# EAGLE library part SCA21X0 (library murata-sensor)
DUAL AXIS ACCELEROMETER
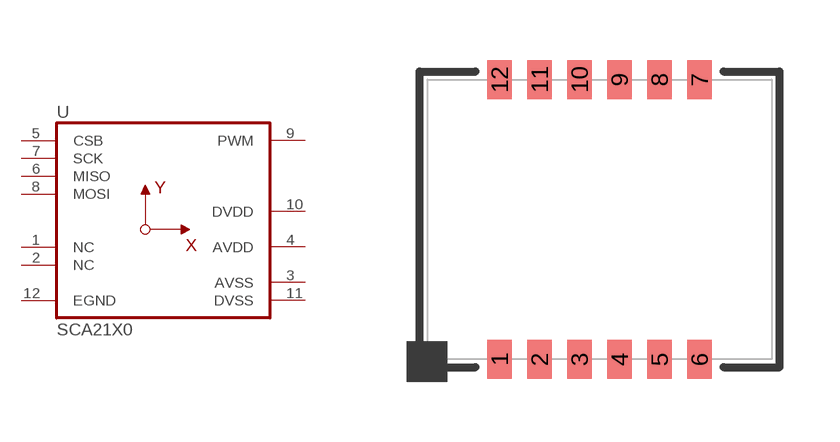
[diagram p1: symbol with the pads of SMD12; footprint SMD12]

Designator prefix U

## SCA21X0  [SMD12]
1  NC  in
2  NC  in
3  AVSS  pwr
4  AVDD  pwr
5  CSB  in
6  MISO  out
7  SCK  in
8  MOSI  in
9  PWM  out
10  DVDD  pwr
11  DVSS  pwr
12  EGND  pwr

## Footprint SMD12 (pad centres in mm)
12-SMD body 7 x 8.6 mm
smd 0.61 x 0.98: 1 -2.5,-3.5; 2 -1.5,-3.5; 3 -0.5,-3.5; 4 0.5,-3.5; 5 1.5,-3.5; 6 2.5,-3.5; 7 2.5,3.5; 8 1.5,3.5; 9 0.5,3.5; 10 -0.5,3.5; 11 -1.5,3.5; 12 -2.5,3.5